# EAGLE library part AOZ1051PI (library sh4dov lib)
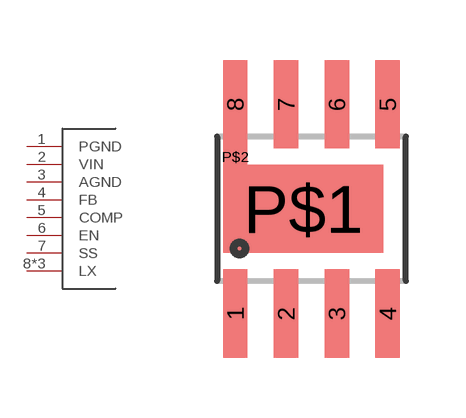
[diagram p0: symbol with the pads of AOZ1051PI; footprint AOZ1051PI]

Designator prefix -

## AOZ1051PI  [AOZ1051PI]
1  PGND
2  VIN
3  AGND
4  FB
5  COMP
6  EN
7  SS
8  LX
P$1  LX
P$2  LX

## Footprint AOZ1051PI (pad centres in mm)
smd 0.61 x 2.21: 1 -1.905,-2.616; 2 -0.635,-2.616; 3 0.635,-2.616; 4 1.905,-2.616; 5 1.905,2.616; 6 0.635,2.616; 7 -0.635,2.616; 8 -1.905,2.616
smd 4 x 2.2: P$1 -0.2,0
smd 0.6 x 0.6: P$2 -1.9,1.3